# EAGLE library part NHD-0420CW-AW3 (library SamacSys_Parts)
OLED Displays & Accessories 4x20 White Slim Character OLED Source: Datasheet <https://componentsearchengine.com/Datasheets/1/NHD-0420CW-AW3.pdf>
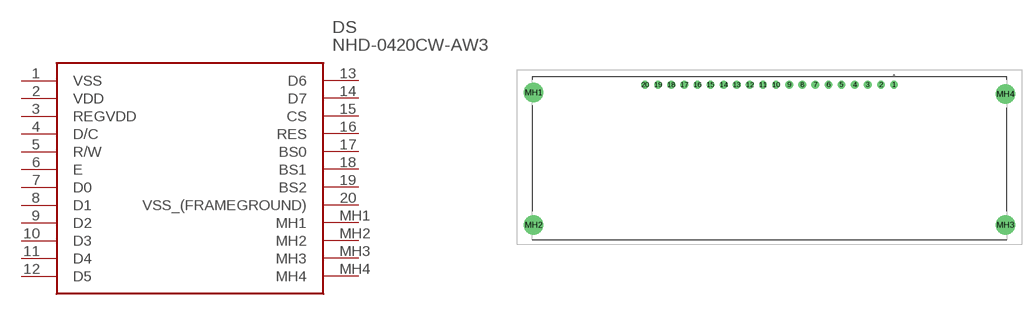
[diagram p0: symbol with the pads of NHD0420CWAW3; footprint NHD0420CWAW3]

Designator prefix DS

## NHD-0420CW-AW3 (Description: OLED Displays & Accessories 4x20 White Slim Character OLED; Height: 7mm; Manufacturer_Name: Newhaven Display; Manufacturer_Part_Number: NHD-0420CW-AW3; Mouser_Part_Number: 763-NHD-0420CW-AW3; Mouser_Price-Stock: https://www.mouser.com/Search/Refine.aspx?Keyword=763-NHD-0420CW-AW3)  [NHD0420CWAW3]
1  VSS
2  VDD
3  REGVDD
4  D/C
5  R/W
6  E
7  D0
8  D1
9  D2
10  D3
11  D4
12  D5
13  D6
14  D7
15  CS
16  RES
17  BS0
18  BS1
19  BS2
20  VSS_(FRAMEGROUND)
MH1  MH1
MH2  MH2
MH3  MH3
MH4  MH4

## Footprint NHD0420CWAW3 (pad centres in mm)
NHD-0420CW-AW3-1
drill 1 pad 1.5: 1 24.13,14.05; 2 21.59,14.05; 3 19.05,14.05; 4 16.51,14.05; 5 13.97,14.05; 6 11.43,14.05; 7 8.89,14.05; 8 6.35,14.05; 9 3.81,14.05; 10 1.27,14.05; 11 -1.27,14.05; 12 -3.81,14.05; 13 -6.35,14.05; 14 -8.89,14.05; 15 -11.43,14.05; 16 -13.97,14.05; 17 -16.51,14.05; 18 -19.05,14.05; 19 -21.59,14.05; 20 -24.13,14.05
drill 2.5 pad 3.75: MH1 -45.7,12.55; MH2 -45.7,-13.11; MH3 45.7,-13.11; MH4 45.7,12.25